# EAGLE library part FFC_10P (library temp_sens_ring)
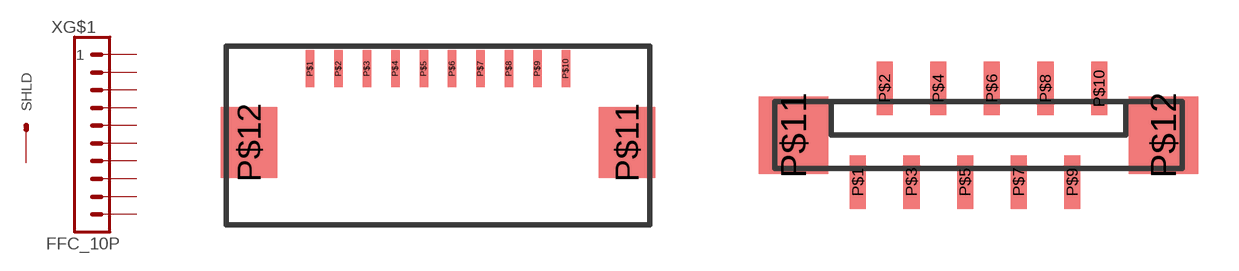
[diagram p2: symbol with the pads of FFC_1.0X10; footprints FFC_1.0X10, FFC_1X10_VERTICAL]

Designator prefix X; gates G$1=CON_10PIN G$2=PIN_SHIELD

## FFC_10PH  [FFC_1.0X10]
P$1  G$1:1  pas
P$2  G$1:2  pas
P$3  G$1:3  pas
P$4  G$1:4  pas
P$5  G$1:5  pas
P$6  G$1:6  pas
P$7  G$1:7  pas
P$8  G$1:8  pas
P$9  G$1:9  pas
P$10  G$1:10  pas
P$11  G$2:SHLD
P$12  G$2:SHLD

## FFC_10PV  [FFC_1X10_VERTICAL]
Pads as for FFC_1.0X10

## Footprint FFC_1.0X10 (pad centres in mm)
PCB Matrix Packages
smd 0.3 x 1.3: P$1 -4.5,1.35; P$2 -3.5,1.35; P$3 -2.5,1.35; P$4 -1.5,1.35; P$5 -0.5,1.35; P$6 0.5,1.35; P$7 1.5,1.35; P$8 2.5,1.35; P$9 3.5,1.35; P$10 4.5,1.35
smd 2 x 2.5: P$11 6.65,-1.25; P$12 -6.65,-1.25

## Footprint FFC_1X10_VERTICAL (pad centres in mm)
smd 0.6 x 2: P$1 -4.5,-1.75; P$2 -3.5,1.75; P$3 -2.5,-1.75; P$4 -1.5,1.75; P$5 -0.5,-1.75; P$6 0.5,1.75; P$7 1.5,-1.75; P$8 2.5,1.75; P$9 3.5,-1.75; P$10 4.5,1.75
smd 2.6 x 2.9: P$11 -6.9,0; P$12 6.9,0